# EAGLE library part SP213ECA-L (library EW_IC_Drivers)
5V, 4-driver/5-receiver RS-232, with Shutdown and Wakeup, +/-15KV ESD, 120kbps, 5 V, 28-Pin SSOP Source: Datasheet <https://www.exar.com/content/document.ashx?id=624&languageid=1033&type=Datasheet&partnumber=SP213E&filename=SP207E_SP213E_101_101512.pdf&part=SP213E>
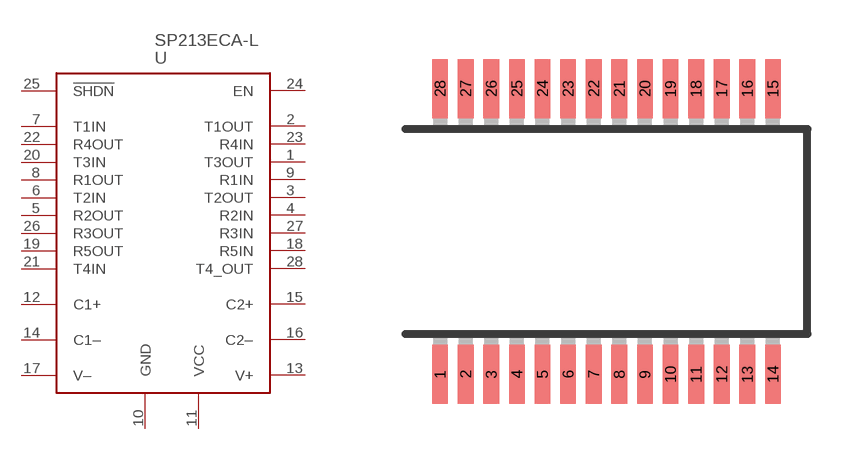
[diagram p117: symbol with the pads of SSOP28; footprint SSOP28]

Designator prefix -

## SP213ECA-L (MPN: SP213ECA; SUPPLIER: MaxLinear, Inc.)  [SSOP28]
1  T3OUT  in
2  T1OUT  in
3  T2OUT  in
4  R2IN  in
5  R2OUT  in
6  T2IN  in
7  T1IN  in
8  R1OUT  in
9  R1IN  in
10  GND  in
11  VCC  in
12  C1+  in
13  V+  in
14  C1–  in
15  C2+  in
16  C2–  in
17  V–  in
18  R5IN  in
19  R5OUT  in
20  T3IN  in
21  T4IN  in
22  R4OUT  in
23  R4IN  in
24  EN  in
25  !SHDN  in
26  R3OUT  in
27  R3IN  in
28  T4_OUT  in

## Footprint SSOP28 (pad centres in mm)
Shrink Small Outline Package package type SS
smd 0.4 x 1.5: 1 -4.225,-3.625; 2 -3.575,-3.625; 3 -2.925,-3.625; 4 -2.275,-3.625; 5 -1.625,-3.625; 6 -0.975,-3.625; 7 -0.325,-3.625; 8 0.325,-3.625; 9 0.975,-3.625; 10 1.625,-3.625; 11 2.275,-3.625; 12 2.925,-3.625; 13 3.575,-3.625; 14 4.225,-3.625; 15 4.225,3.625; 16 3.575,3.625; 17 2.925,3.625; 18 2.275,3.625; 19 1.625,3.625; 20 0.975,3.625; 21 0.325,3.625; 22 -0.325,3.625; 23 -0.975,3.625; 24 -1.625,3.625; 25 -2.275,3.625; 26 -2.925,3.625; 27 -3.575,3.625; 28 -4.225,3.625